# Altium schematic symbol library pcie.SchLib: 1 symbol
Pins are listed as number, name and electrical type; pins without a type are passive.

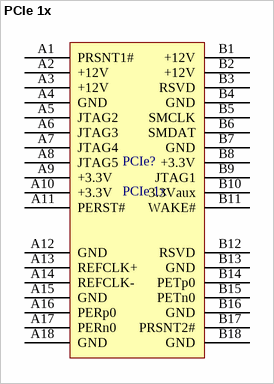
[diagram p0: symbol PCIe 1x]

## PCIe 1x
designator PCIe?
1x PCIe Card Edge
footprint PCI Express Card 1x (Single Lane PCI Express Card Edge Connector)
pins: A1 PRSNT1# "Hot-Plug presence  detect", A2 +12V "12 V power", A3 +12V "12 V power", A4 GND "Ground", A5 JTAG2 "TCK (Test Clock), clock  input for JTAG interface", A6 JTAG3 "TDI (Test Data Input)", A7 JTAG4 "TDO (Test Data Output)", A8 JTAG5 "TMS (Test Mode  Select)", A9 +3.3V "3.3 V power", A10 +3.3V "3.3 V power", A11 PERST# "Fundamental reset", A12 GND "Ground", A13 REFCLK+ "Reference clock", A14 REFCLK- "Reference clock", A15 GND "Ground", A16 PERp0 "Receiver differential  pair, Lane 0", A17 PERn0 "Receiver differential  pair, Lane 0", A18 GND "Ground", B1 +12V "12 V power", B2 +12V "12 V power", B3 RSVD "Reserved", B4 GND "Ground", B5 SMCLK "SMBus (System  Management Bus) clock", B6 SMDAT "SMBus (System  Management Bus) data", B7 GND "3.3 V power", B8 +3.3V "3.3 V power", B9 JTAG1 "TRST# (Test Reset)  resets the JTAG  interface", B10 3.3Vaux "3.3 V auxiliary power", B11 WAKE# "Signal for Link  reactivation", B12 RSVD "Reserved", B13 GND "Ground", B14 PETp0 "Transmitter differential  pair, Lane 0", B15 PETn0 "Transmitter differential  pair, Lane 0", B16 GND "Ground", B17 PRSNT2# "Hot-Plug presence detect", B18 GND "Ground"